# Altium footprint library crystal.PCBLIB: 66 footprints (part 3 of 5)
Each footprint in its own frame and in the unit in brackets; x right, y up, seen from the top. Pads: shape width x height; smd on the part's side, far side on the other; paste and mask are expansions set on the pad; w line width, h text height; cw(c..) or ccw(c..) is an arc to the next point about the centre after c.
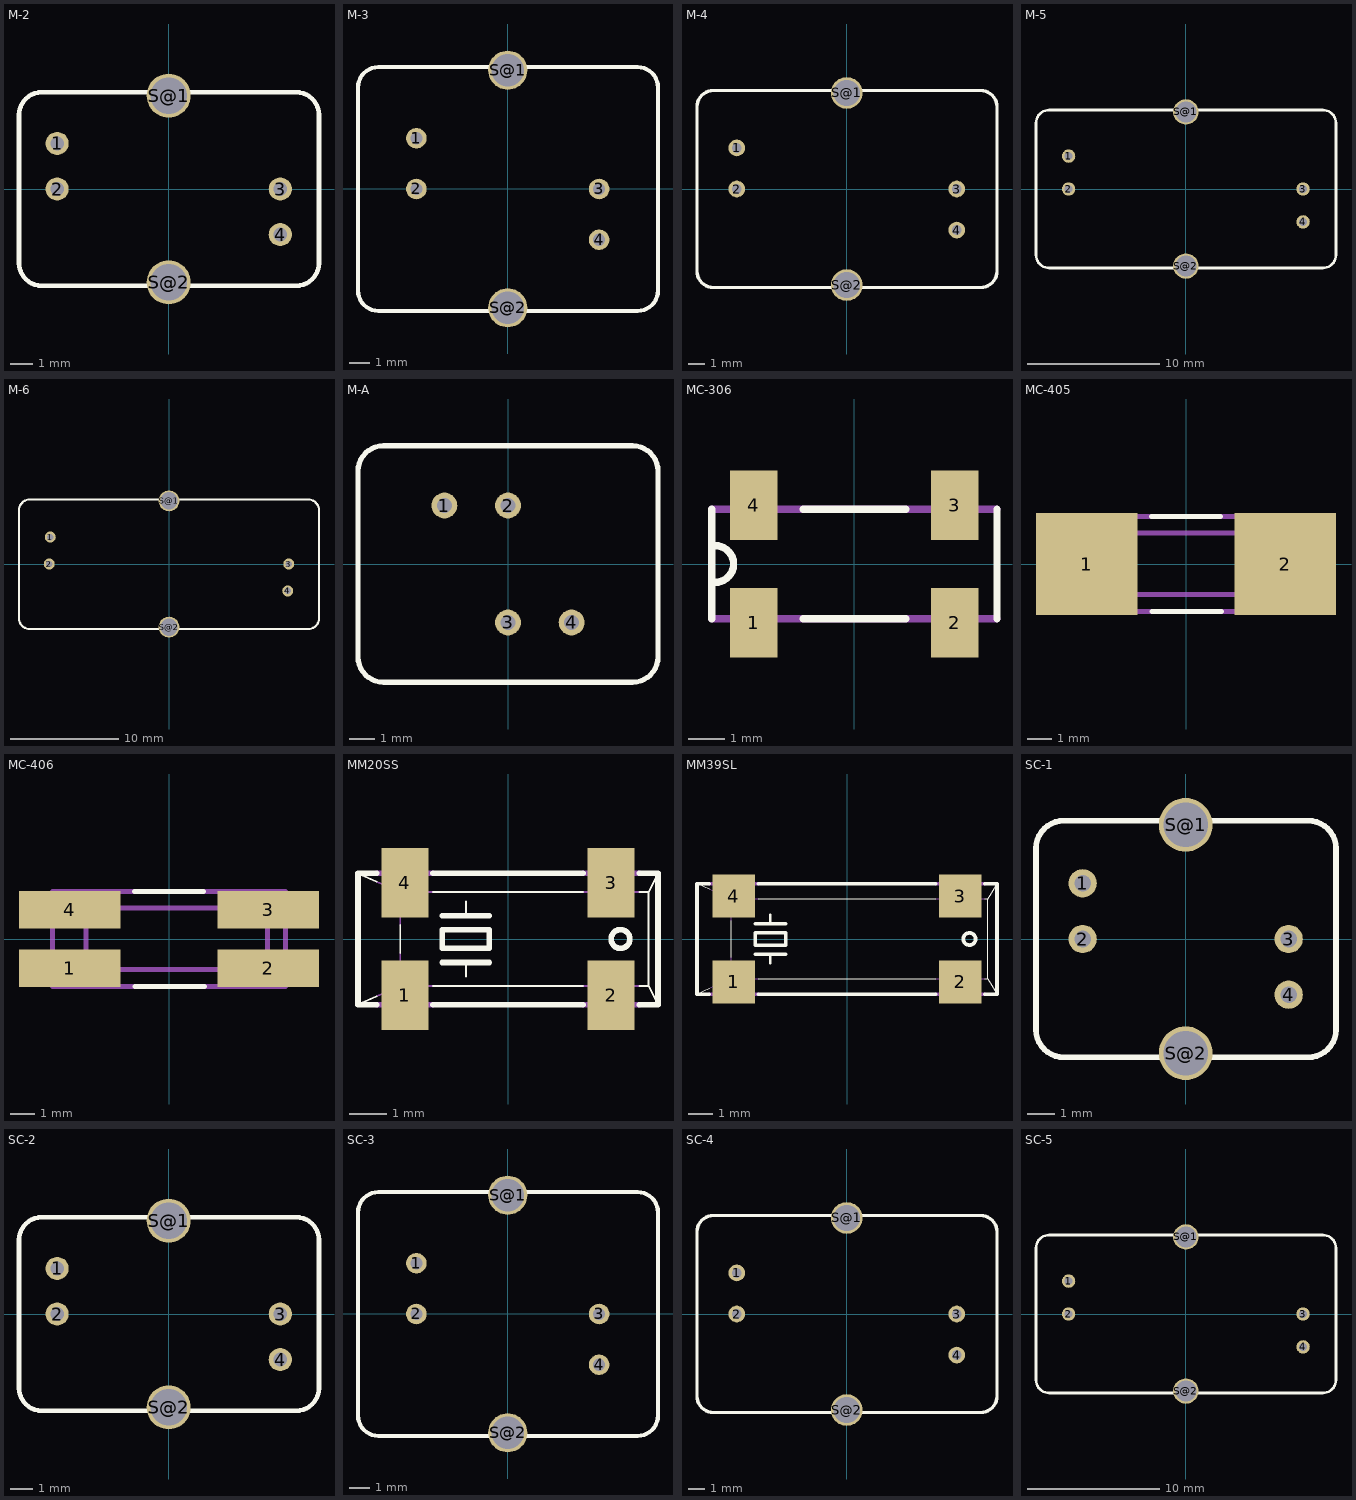
[diagram p2: the footprints below, top view; thin cyan lines are the x and y axes]

## M-2 [mil]
pads (6):
  round 40 hole 23.62: 1(-192.91,78.74) 2(-192.91,0) 3(192.91,0) 4(192.91,-78.74)
  round 76 hole 62.99: S@1(0,161.42) S@2(0,-161.42)
Top Overlay:
  lines w8: -258.86,-127.95 -258.86,127.95 cw(c-219.49,127.95) -219.49,167.32 220.47,167.32 cw(c220.47,127.95) 259.84,127.95 259.84,-127.95 cw(c220.47,-127.95) 220.47,-167.32 -219.49,-167.32 cw(c-219.49,-127.95) -258.86,-127.95

## M-3 [mil]
pads (6):
  round 40 hole 23.62: 1(-177.17,98.43) 2(-177.17,0) 3(177.17,0) 4(177.17,-98.43)
  round 76 hole 62.99: S@1(0,230.32) S@2(0,-230.32)
Top Overlay:
  lines w8: -290.35,-196.85 -290.35,196.85 cw(c-250.98,196.85) -250.98,236.22 251.97,236.22 cw(c251.97,196.85) 291.34,196.85 291.34,-196.85 cw(c251.97,-196.85) 251.97,-236.22 -250.98,-236.22 cw(c-250.98,-196.85) -290.35,-196.85

## M-4 [mil]
pads (6):
  round 40 hole 23.62: 1(-263.78,98.43) 2(-263.78,0) 3(263.78,0) 4(263.78,-98.43)
  round 76 hole 62.99: S@1(0,230.32) S@2(0,-230.32)
Top Overlay:
  lines w8: -359.25,-196.85 -359.25,196.85 cw(c-319.88,196.85) -319.88,236.22 320.87,236.22 cw(c320.87,196.85) 360.24,196.85 360.24,-196.85 cw(c320.87,-196.85) 320.87,-236.22 -319.88,-236.22 cw(c-319.88,-196.85) -359.25,-196.85

## M-5 [mil]
pads (6):
  round 40 hole 23.62: 1(-350.39,98.43) 2(-350.39,0) 3(350.39,0) 4(350.39,-98.43)
  round 76 hole 62.99: S@1(0,230.32) S@2(0,-230.32)
Top Overlay:
  lines w8: -447.83,-196.85 -447.83,196.85 cw(c-408.46,196.85) -408.46,236.22 409.45,236.22 cw(c409.45,196.85) 448.82,196.85 448.82,-196.85 cw(c409.45,-196.85) 409.45,-236.22 -408.46,-236.22 cw(c-408.46,-196.85) -447.83,-196.85

## M-6 [mil]
pads (6):
  round 40 hole 23.62: 1(-433.07,98.43) 2(-437.01,0) 3(437.01,0) 4(433.07,-98.43)
  round 76 hole 62.99: S@1(0,230.32) S@2(0,-230.32)
Top Overlay:
  lines w8: -547.24,-197.83 -547.24,195.87 cw(c-507.87,195.87) -507.87,235.24 507.87,235.24 cw(c507.87,195.87) 547.24,195.87 547.24,-197.83 cw(c507.87,-197.83) 507.87,-237.2 -507.87,-237.2 cw(c-507.87,-197.83) -547.24,-197.83

## M-A [mil]
pads (4):
  round 40 hole 23.62: 1(-98.43,90.55) 2(0,90.55) 3(0,-90.55) 4(98.43,-90.55)
Top Overlay:
  lines w8: -232.28,-143.7 -232.28,143.7 cw(c-192.91,143.7) -192.91,183.07 192.91,183.07 cw(c192.91,143.7) 232.28,143.7 232.28,-143.7 cw(c192.91,-143.7) 192.91,-183.07 -192.91,-183.07 cw(c-192.91,-143.7) -232.28,-143.7

## MC-306 [mil]
pads (4):
  rect 51.18x74.8 smd: 1(-108.27,-62.99) 2(108.27,-62.99) 3(108.27,62.99) 4(-108.27,62.99)
Top Overlay:
  lines w8: -153.54,-59.06 -153.54,59.06 ; -149.61,-19.69 ccw(c-149.61,0) -149.61,19.69 ; -55.12,-59.06 55.12,-59.06 ; -55.12,59.06 55.12,59.06 ; 153.54,-59.06 153.54,59.06
Mechanical 16:
  lines w8: -153.54,-59.06 153.54,-59.06 ; -153.54,59.06 153.54,59.06

## MC-405 [mm]
pads (2):
  rect 4.1x4.1 smd: 1(-4,0) 2(4,0)
Top Overlay:
  lines w0.203: -1.4,1.925 1.4,1.925 ; -1.375,-1.925 1.425,-1.925
Mechanical 16:
  rectangle: -5.2,1.175 -4.775,1.625
  rectangle: -5.2,-1.625 -4.775,-1.175
  region: 5.2,-1.175 4.775,-1.175 4.775,-1.625 5.2,-1.625
  region: 5.2,1.625 4.775,1.625 4.775,1.175 5.2,1.175
  lines w0.203: -4.7,-1.925 4.7,-1.925 ; -4.7,-1.925 -4.7,1.925 ; -4.7,-1.925 -3.35,-1.225 ; -4.7,1.925 4.7,1.925 ; -4.7,1.925 -3.35,1.25 ; -3.35,-1.225 -3.35,1.25 ; -3.35,-1.225 3.975,-1.225 3.975,-1.2 ; -3.35,1.25 3.975,1.25 3.975,1.225 ; 3.975,-1.2 3.975,1.225 ; 3.975,-1.2 4.7,-1.925 ; 3.975,1.225 4.7,1.925 ; 4.7,-1.925 4.7,1.925

## MC-406 [mm]
pads (4):
  rect 4.1x1.52 smd: 1(-4,-1.175) 2(4,-1.175) 3(4,1.175) 4(-4,1.175)
Top Overlay:
  lines w0.203: -1.4,1.925 1.4,1.925 ; -1.375,-1.925 1.425,-1.925
Mechanical 16:
  rectangle: -5.2,1.175 -4.775,1.625
  rectangle: -5.2,-1.625 -4.775,-1.175
  region: 5.2,-1.175 4.775,-1.175 4.775,-1.625 5.2,-1.625
  region: 5.2,1.625 4.775,1.625 4.775,1.175 5.2,1.175
  lines w0.203: -4.7,-1.925 4.7,-1.925 ; -4.7,-1.925 -4.7,1.925 ; -4.7,-1.925 -3.35,-1.225 ; -4.7,1.925 4.7,1.925 ; -4.7,1.925 -3.35,1.25 ; -3.35,-1.225 -3.35,1.25 ; -3.35,-1.225 3.975,-1.225 3.975,-1.2 ; -3.35,1.25 3.975,1.25 3.975,1.225 ; 3.975,-1.2 3.975,1.225 ; 3.975,-1.2 4.7,-1.925 ; 3.975,1.225 4.7,1.925 ; 4.7,-1.925 4.7,1.925

## MM20SS [mil]
pads (4):
  rect 50x74 smd: 1(-110,-60) 2(110,-60) 3(110,60) 4(-110,60)
Top Overlay:
  circle w6: c120,0 r10
  lines w2: -160,-70 -140,-61.1 ; -160,70 -140,61.1 ; -115,-15 -115,15 ; -80,-50 80,-50 ; -80,50 80,50 ; -45,-40 -45,-25 ; -45,25 -45,40 ; 140,-50 150,-50 ; 140,50 150,50 ; 160,-70 150,-50 ; 160,70 150,50 ; 150,-50 150,50
  lines w6: -140,-70 -160,-70 -160,70 -140,70 ; -80,-70 80,-70 ; -80,70 80,70 ; -70,-25 -45,-25 -20,-25 ; -70,25 -45,25 -20,25 ; 140,-70 160,-70 160,70 140,70 ; -70,-10 -20,-10 -20,10 -70,10 -70,-10
Mechanical 16:
  lines w2: -140,-61.1 -115,-50 ; -140,61.1 -115,50 ; -115,-15 -115,-50 ; -115,15 -115,50 ; -80,-50 -115,-50 ; -80,50 -115,50 ; 80,-50 140,-50 ; 80,50 140,50
  lines w6: -140,-70 -80,-70 ; -140,70 -80,70 ; -120,-70 -120,-75 -100,-75 -100,-70 ; -120,70 -120,75 -100,75 -100,70 ; 80,-70 140,-70 ; 80,70 140,70 ; 100,-70 100,-75 120,-75 120,-70 ; 100,70 100,75 120,75 120,70

## MM39SL [mil]
pads (4):
  rect 70x70 smd: 1(-185,-70) 2(185,-70) 3(185,70) 4(-185,70)
Top Overlay:
  circle w6: c200,0 r10
  lines w2: -245,-90 -225,-80.91 ; -245,90 -225,80.91 ; -190,-30 -190,30 ; -145,-65 145,-65 ; -145,65 145,65 ; 225,-65 230,-65 ; 225,65 230,65 ; 245,-90 230,-65 ; 245,90 230,65 ; 230,-65 230,65
  lines w4: -125,-40 -125,-25 ; -125,25 -125,40
  lines w6: -225,-90 -245,-90 -245,90 -225,90 ; -150,-25 -125,-25 -100,-25 ; -150,25 -125,25 -100,25 ; -145,-90 145,-90 ; -145,90 145,90 ; 225,-90 245,-90 245,90 225,90 ; -150,-10 -100,-10 -100,10 -150,10 -150,-10
Mechanical 16:
  lines w2: -225,-80.91 -190,-65 ; -225,80.91 -190,65 ; -190,-30 -190,-65 ; -190,30 -190,65 ; -145,-65 -190,-65 ; -145,65 -190,65 ; 145,-65 225,-65 ; 145,65 225,65
  lines w6: -225,-90 -145,-90 ; -225,90 -145,90 ; 145,-90 225,-90 ; 145,90 225,90

## SC-1 [mil]
pads (6):
  round 40 hole 23.62: 1(-145.67,78.74) 2(-145.67,0) 3(145.67,0) 4(145.67,-78.74)
  round 76 hole 62.99: S@1(0,161.42) S@2(0,-161.42)
Top Overlay:
  lines w8: -211.61,-127.95 -211.61,127.95 cw(c-172.24,127.95) -172.24,167.32 173.23,167.32 cw(c173.23,127.95) 212.6,127.95 212.6,-127.95 cw(c173.23,-127.95) 173.23,-167.32 -172.24,-167.32 cw(c-172.24,-127.95) -211.61,-127.95

## SC-2 [mil]
pads (6):
  round 40 hole 23.62: 1(-192.91,78.74) 2(-192.91,0) 3(192.91,0) 4(192.91,-78.74)
  round 76 hole 62.99: S@1(0,161.42) S@2(0,-161.42)
Top Overlay:
  lines w8: -258.86,-127.95 -258.86,127.95 cw(c-219.49,127.95) -219.49,167.32 220.47,167.32 cw(c220.47,127.95) 259.84,127.95 259.84,-127.95 cw(c220.47,-127.95) 220.47,-167.32 -219.49,-167.32 cw(c-219.49,-127.95) -258.86,-127.95

## SC-3 [mil]
pads (6):
  round 40 hole 23.62: 1(-177.17,98.43) 2(-177.17,0) 3(177.17,0) 4(177.17,-98.43)
  round 76 hole 62.99: S@1(0,230.32) S@2(0,-230.32)
Top Overlay:
  lines w8: -290.35,-196.85 -290.35,196.85 cw(c-250.98,196.85) -250.98,236.22 251.97,236.22 cw(c251.97,196.85) 291.34,196.85 291.34,-196.85 cw(c251.97,-196.85) 251.97,-236.22 -250.98,-236.22 cw(c-250.98,-196.85) -290.35,-196.85

## SC-4 [mil]
pads (6):
  round 40 hole 23.62: 1(-263.78,98.43) 2(-263.78,0) 3(263.78,0) 4(263.78,-98.43)
  round 76 hole 62.99: S@1(0,230.32) S@2(0,-230.32)
Top Overlay:
  lines w8: -359.25,-196.85 -359.25,196.85 cw(c-319.88,196.85) -319.88,236.22 320.87,236.22 cw(c320.87,196.85) 360.24,196.85 360.24,-196.85 cw(c320.87,-196.85) 320.87,-236.22 -319.88,-236.22 cw(c-319.88,-196.85) -359.25,-196.85

## SC-5 [mil]
pads (6):
  round 40 hole 23.62: 1(-350.39,98.43) 2(-350.39,0) 3(350.39,0) 4(350.39,-98.43)
  round 76 hole 62.99: S@1(0,230.32) S@2(0,-230.32)
Top Overlay:
  lines w8: -447.83,-196.85 -447.83,196.85 cw(c-408.46,196.85) -408.46,236.22 409.45,236.22 cw(c409.45,196.85) 448.82,196.85 448.82,-196.85 cw(c409.45,-196.85) 409.45,-236.22 -408.46,-236.22 cw(c-408.46,-196.85) -447.83,-196.85